# Altium schematic symbol library Test6502_project.SchLib: 18 symbols
Pins are listed as number, name and electrical type; pins without a type are passive.

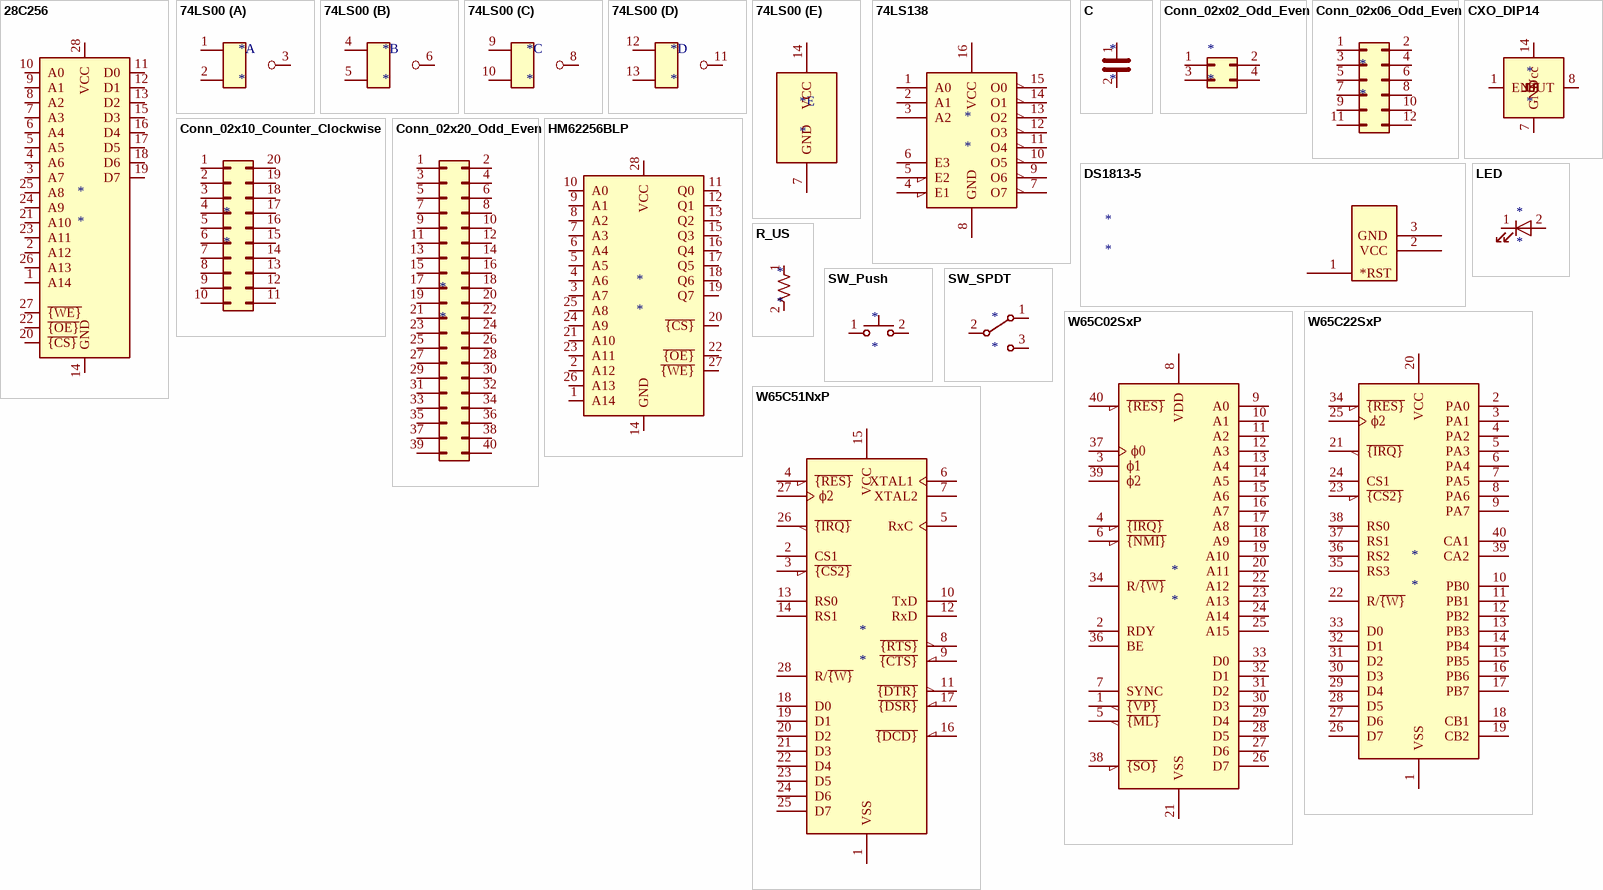
[diagram p0: symbols 28C256 to W65C51NxP]

## 28C256
designator *
pins: 1 A14, 2 A12, 3 A7, 4 A6, 5 A5, 6 A4, 7 A3, 8 A2, 9 A1, 10 A0, 11 D0, 12 D1, 13 D2, 14 GND, 15 D3, 16 D4, 17 D5, 18 D6, 19 D7, 20 ~{{CS}}, 21 A10, 22 ~{{OE}}, 23 A11, 24 A9, 25 A8, 26 A13, 27 ~{{WE}}, 28 VCC

## 74LS00
designator *
part A pins: 1, 2, 3
part B pins: 4, 5, 6
part C pins: 8, 9, 10
part D pins: 11, 12, 13
part E pins: 7 GND, 14 VCC
1 alternate drawing of the same symbol

## 74LS138
designator *
pins: 1 A0, 2 A1, 3 A2, 4 E1, 5 E2, 6 E3, 7 O7, 8 GND, 9 O6, 10 O5, 11 O4, 12 O3, 13 O2, 14 O1, 15 O0, 16 VCC

## C
designator *
pins: 1, 2

## Conn_02x02_Odd_Even
designator *
pins: 1 Pin_1, 2 Pin_2, 3 Pin_3, 4 Pin_4

## Conn_02x06_Odd_Even
designator *
pins: 1 Pin_1, 2 Pin_2, 3 Pin_3, 4 Pin_4, 5 Pin_5, 6 Pin_6, 7 Pin_7, 8 Pin_8, 9 Pin_9, 10 Pin_10, 11 Pin_11, 12 Pin_12

## Conn_02x10_Counter_Clockwise
designator *
pins: 1 Pin_1, 2 Pin_2, 3 Pin_3, 4 Pin_4, 5 Pin_5, 6 Pin_6, 7 Pin_7, 8 Pin_8, 9 Pin_9, 10 Pin_10, 11 Pin_11, 12 Pin_12, 13 Pin_13, 14 Pin_14, 15 Pin_15, 16 Pin_16, 17 Pin_17, 18 Pin_18, 19 Pin_19, 20 Pin_20

## Conn_02x20_Odd_Even
designator *
pins: 1 Pin_1, 2 Pin_2, 3 Pin_3, 4 Pin_4, 5 Pin_5, 6 Pin_6, 7 Pin_7, 8 Pin_8, 9 Pin_9, 10 Pin_10, 11 Pin_11, 12 Pin_12, 13 Pin_13, 14 Pin_14, 15 Pin_15, 16 Pin_16, 17 Pin_17, 18 Pin_18, 19 Pin_19, 20 Pin_20, 21 Pin_21, 22 Pin_22, 23 Pin_23, 24 Pin_24, 25 Pin_25, 26 Pin_26, 27 Pin_27, 28 Pin_28, 29 Pin_29, 30 Pin_30, 31 Pin_31, 32 Pin_32, 33 Pin_33, 34 Pin_34, 35 Pin_35, 36 Pin_36, 37 Pin_37, 38 Pin_38, 39 Pin_39, 40 Pin_40

## CXO_DIP14
designator *
pins: 1 EN, 7 GND, 8 OUT, 14 Vcc

## DS1813-5
designator *
pins: 1 *RST, 2 VCC, 3 GND

## HM62256BLP
designator *
pins: 1 A14, 2 A12, 3 A7, 4 A6, 5 A5, 6 A4, 7 A3, 8 A2, 9 A1, 10 A0, 11 Q0, 12 Q1, 13 Q2, 14 GND, 15 Q3, 16 Q4, 17 Q5, 18 Q6, 19 Q7, 20 ~{{CS}}, 21 A10, 22 ~{{OE}}, 23 A11, 24 A9, 25 A8, 26 A13, 27 ~{{WE}}, 28 VCC

## LED
designator *
pins: 1 K, 2 A

## R_US
designator *
pins: 1, 2

## SW_Push
designator *
pins: 1, 2

## SW_SPDT
designator *
pins: 1 A, 2 B, 3 C

## W65C02SxP
designator *
pins: 1 ~{{VP}}, 2 RDY, 3 ϕ1, 4 ~{{IRQ}}, 5 ~{{ML}}, 6 ~{{NMI}}, 7 SYNC, 8 VDD, 9 A0, 10 A1, 11 A2, 12 A3, 13 A4, 14 A5, 15 A6, 16 A7, 17 A8, 18 A9, 19 A10, 20 A11, 21 VSS, 22 A12, 23 A13, 24 A14, 25 A15, 26 D7, 27 D6, 28 D5, 29 D4, 30 D3, 31 D2, 32 D1, 33 D0, 34 R/~{{W}}, 35 nc hidden, 36 BE, 37 ϕ0, 38 ~{{SO}}, 39 ϕ2, 40 ~{{RES}}

## W65C22SxP
designator *
pins: 1 VSS, 2 PA0, 3 PA1, 4 PA2, 5 PA3, 6 PA4, 7 PA5, 8 PA6, 9 PA7, 10 PB0, 11 PB1, 12 PB2, 13 PB3, 14 PB4, 15 PB5, 16 PB6, 17 PB7, 18 CB1, 19 CB2, 20 VCC, 21 ~{{IRQ}}, 22 R/~{{W}}, 23 ~{{CS2}}, 24 CS1, 25 ϕ2, 26 D7, 27 D6, 28 D5, 29 D4, 30 D3, 31 D2, 32 D1, 33 D0, 34 ~{{RES}}, 35 RS3, 36 RS2, 37 RS1, 38 RS0, 39 CA2, 40 CA1

## W65C51NxP
designator *
pins: 1 VSS, 2 CS1, 3 ~{{CS2}}, 4 ~{{RES}}, 5 RxC, 6 XTAL1, 7 XTAL2, 8 ~{{RTS}}, 9 ~{{CTS}}, 10 TxD, 11 ~{{DTR}}, 12 RxD, 13 RS0, 14 RS1, 15 VCC, 16 ~{{DCD}}, 17 ~{{DSR}}, 18 D0, 19 D1, 20 D2, 21 D3, 22 D4, 23 D5, 24 D6, 25 D7, 26 ~{{IRQ}}, 27 ϕ2, 28 R/~{{W}}